# EAGLE library part SJ-3506-SMT-TR (library Common-Parts-Library-Eagle)
SJ-3506-SMT Series 12 V Right Angle 3.5 mm Stereo SMT Mid Mount Audio Jack
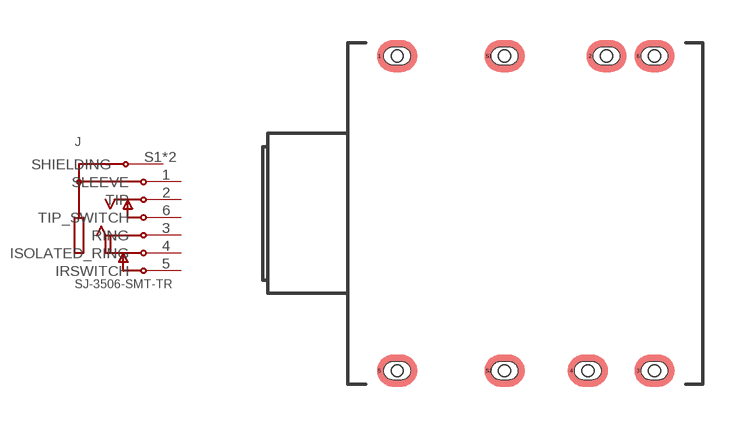
[diagram p5: symbol with the pads of CUI_SJ-3506-SMT-TR; footprint CUI_SJ-3506-SMT-TR]

Designator prefix J

## SJ-3506-SMT-TR (MANUFACTURER: CUI Inc.)  [CUI_SJ-3506-SMT-TR]
1  SLEEVE  pas
2  TIP  pas
3  RING  pas
4  ISOLATED_RING  pas
5  IRSWITCH  pas
6  TIP_SWITCH  pas
S1  SHIELDING  pas
S2  SHIELDING  pas

## Footprint CUI_SJ-3506-SMT-TR (pad centres in mm)
smd 0.1 x 0.1: 1 -4.7,5.9; 2 3.2,5.9; 3 5,-5.9; 4 2.5,-5.9; 5 -4.7,-5.9; 6 5,5.9; S1 -0.6,5.9; S2 -0.6,-5.9
hole 0.45 at -4.03,5.9
hole 0.45 at 0,5.9
hole 0.45 at 3.82,5.9
hole 0.45 at 5.62,5.9
hole 0.45 at -4.03,-5.9
hole 0.45 at 0,-5.9
hole 0.45 at 3.12,-5.9
hole 0.45 at 5.62,-5.9